# Altium footprint library mw.PcbLib: 252 footprints (part 9 of 16)
Each footprint in its own frame and in the unit in brackets; x right, y up, seen from the top. Pads: shape width x height; smd on the part's side, far side on the other; paste and mask are expansions set on the pad; w line width, h text height; cw(c..) or ccw(c..) is an arc to the next point about the centre after c.
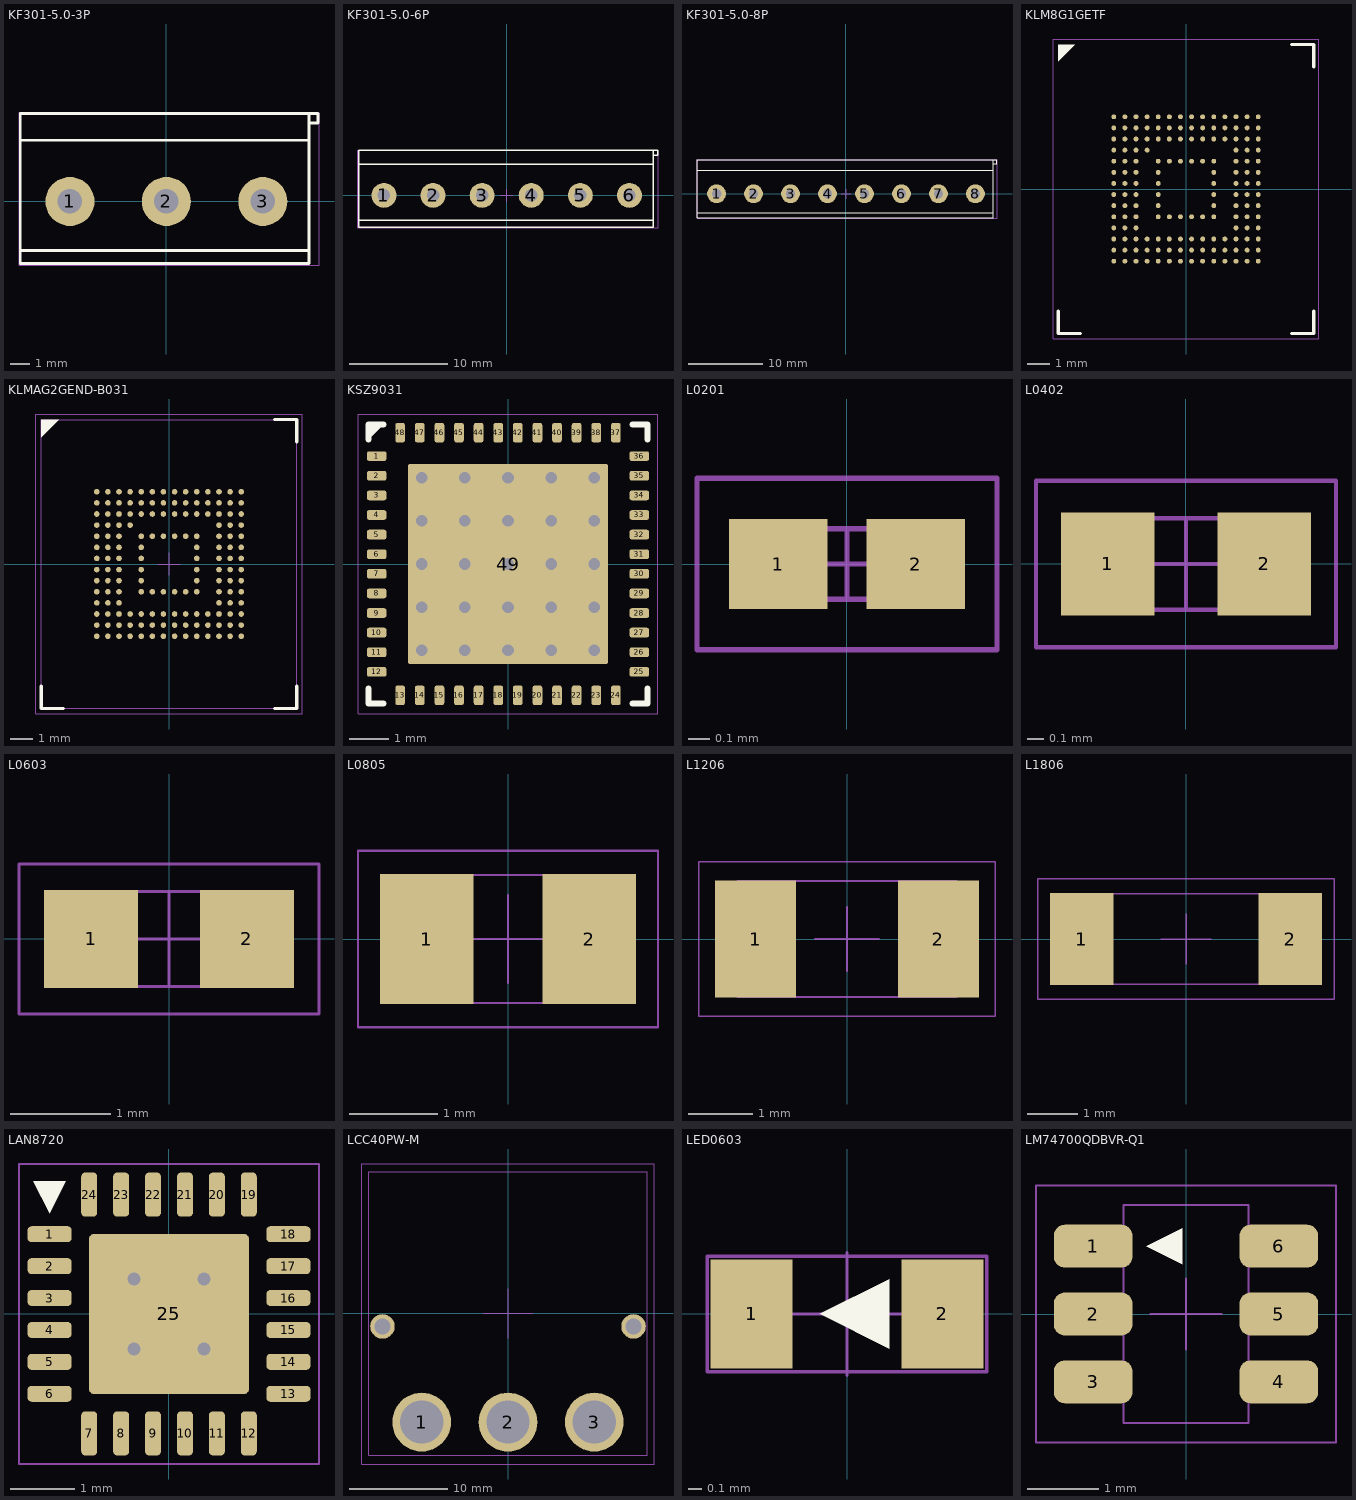
[diagram p8: the footprints below, top view; thin cyan lines are the x and y axes]

## KF301-5.0-3P [mm]
pads (3):
  round 2.54 hole 1.27: 1(-5,0) 2(0,0) 3(5,0)
Top Overlay:
  lines w0.152: -7.58,-2.54 7.406,-2.54 ; -7.58,3.175 7.406,3.175 ; 7.406,4.064 7.867,4.064 7.867,4.572 7.406,4.572 ; 7.406,4.572 -7.58,4.572 -7.58,-3.225 7.406,-3.225 7.406,4.572
Top Courtyard:
  lines w0.025: -0.635,0 0.635,0 ; 0,-0.635 0,0.635 ; -7.644,-3.315 -7.644,4.61 7.914,4.61 7.914,-3.315 -7.644,-3.315
3D body "KF301-5.0-3.STEP": height 10, standoff -2, extent -7.583,-3.128 7.917,4.572

## KF301-5.0-6P [mm]
pads (6):
  round 2.54 hole 1.27: 1(-12.5,0) 2(-7.5,0) 3(-2.5,0) 4(2.5,0) 5(7.5,0) 6(12.5,0)
Top Overlay:
  lines w0.152: -15.08,-2.54 14.906,-2.54 ; -15.08,3.175 14.906,3.189 ; 14.906,4.064 15.367,4.064 15.367,4.572 ; 15.367,4.572 14.906,4.572 14.906,-3.225 -15.08,-3.225 -15.08,4.572 15.367,4.572
Top Courtyard:
  lines w0.025: -0.635,0 0.635,0 ; 0,-0.635 0,0.635 ; -15.144,-3.315 -15.144,4.61 15.414,4.61 15.414,-3.315 -15.144,-3.315
3D body "KF301-5.0-6.STEP": height 10, standoff -2, extent -15.08,-3.225 15.42,4.475

## KF301-5.0-8P [mm]
pads (8):
  round 2.54 hole 1.27: 1(-17.5,0) 2(-12.5,0) 3(-7.5,0) 4(-2.5,0) 5(2.5,0) 6(7.5,0) 7(12.5,0) 8(17.5,0)
Top Overlay:
  lines w0.152: -20.08,-2.54 19.906,-2.54 ; -20.08,3.175 19.906,3.193 ; 19.906,4.064 20.367,4.064 20.367,4.572 19.906,4.572 ; 19.906,4.572 19.906,-3.225 -20.08,-3.225 -20.08,4.572 19.906,4.572
Top Courtyard:
  lines w0.025: -0.617,-0.002 0.653,-0.002 ; 0.018,-0.637 0.018,0.633 ; -20.144,-3.315 20.414,-3.315 20.414,4.61 -20.144,4.61 -20.144,-3.315
3D body "KF301-5.0-8.STEP": height 10, standoff -2, extent -20.08,-3.225 20.42,4.475

## KLM8G1GETF [mm]
height 0.8
pads (153):
  round 0.22 smd: A1(-3.25,3.25) A2(-2.75,3.25) A3(-2.25,3.25) A4(-1.75,3.25) A5(-1.25,3.25) A6(-0.75,3.25) A7(-0.25,3.25) A8(0.25,3.25) A9(0.75,3.25) A10(1.25,3.25) A11(1.75,3.25) A12(2.25,3.25) A13(2.75,3.25) A14(3.25,3.25) B1(-3.25,2.75) B2(-2.75,2.75) B3(-2.25,2.75) B4(-1.75,2.75) B5(-1.25,2.75) B6(-0.75,2.75) B7(-0.25,2.75) B8(0.25,2.75) B9(0.75,2.75) B10(1.25,2.75) B11(1.75,2.75) B12(2.25,2.75) B13(2.75,2.75) B14(3.25,2.75) C1(-3.25,2.25) C2(-2.75,2.25) C3(-2.25,2.25) C4(-1.75,2.25) C5(-1.25,2.25) C6(-0.75,2.25) C7(-0.25,2.25) C8(0.25,2.25) C9(0.75,2.25) C10(1.25,2.25) C11(1.75,2.25) C12(2.25,2.25) C13(2.75,2.25) C14(3.25,2.25) D1(-3.25,1.75) D2(-2.75,1.75) D3(-2.25,1.75) D4(-1.75,1.75) D12(2.25,1.75) D13(2.75,1.75) D14(3.25,1.75) E1(-3.25,1.25) E2(-2.75,1.25) E3(-2.25,1.25) E5(-1.25,1.25) E6(-0.75,1.25) E7(-0.25,1.25) E8(0.25,1.25) E9(0.75,1.25) E10(1.25,1.25) E12(2.25,1.25) E13(2.75,1.25) E14(3.25,1.25) F1(-3.25,0.75) F2(-2.75,0.75) F3(-2.25,0.75) F5(-1.25,0.75) F10(1.25,0.75) F12(2.25,0.75) F13(2.75,0.75) F14(3.25,0.75) G1(-3.25,0.25) G2(-2.75,0.25) G3(-2.25,0.25) G5(-1.25,0.25) G10(1.25,0.25) G12(2.25,0.25) G13(2.75,0.25) G14(3.25,0.25) H1(-3.25,-0.25) H2(-2.75,-0.25) H3(-2.25,-0.25) H5(-1.25,-0.25) H10(1.25,-0.25) H12(2.25,-0.25) H13(2.75,-0.25) H14(3.25,-0.25) J1(-3.25,-0.75) J2(-2.75,-0.75) J3(-2.25,-0.75) J5(-1.25,-0.75) J10(1.25,-0.75) J12(2.25,-0.75) J13(2.75,-0.75) J14(3.25,-0.75) K1(-3.25,-1.25) K2(-2.75,-1.25) K3(-2.25,-1.25) K5(-1.25,-1.25) K6(-0.75,-1.25) K7(-0.25,-1.25) K8(0.25,-1.25) K9(0.75,-1.25) K10(1.25,-1.25) K12(2.25,-1.25) K13(2.75,-1.25) K14(3.25,-1.25) L1(-3.25,-1.75) L2(-2.75,-1.75) L3(-2.25,-1.75) L12(2.25,-1.75) L13(2.75,-1.75) L14(3.25,-1.75) M1(-3.25,-2.25) M2(-2.75,-2.25) M3(-2.25,-2.25) M4(-1.75,-2.25) M5(-1.25,-2.25) M6(-0.75,-2.25) M7(-0.25,-2.25) M8(0.25,-2.25) M9(0.75,-2.25) M10(1.25,-2.25) M11(1.75,-2.25) M12(2.25,-2.25) M13(2.75,-2.25) M14(3.25,-2.25) N1(-3.25,-2.75) N2(-2.75,-2.75) N3(-2.25,-2.75) N4(-1.75,-2.75) N5(-1.25,-2.75) N6(-0.75,-2.75) N7(-0.25,-2.75) N8(0.25,-2.75) N9(0.75,-2.75) N10(1.25,-2.75) N11(1.75,-2.75) N12(2.25,-2.75) N13(2.75,-2.75) N14(3.25,-2.75) P1(-3.25,-3.25) P2(-2.75,-3.25) P3(-2.25,-3.25) P4(-1.75,-3.25) P5(-1.25,-3.25) P6(-0.75,-3.25) P7(-0.25,-3.25) P8(0.25,-3.25) P9(0.75,-3.25) P10(1.25,-3.25) P11(1.75,-3.25) P12(2.25,-3.25) P13(2.75,-3.25) P14(3.25,-3.25)
Top Overlay:
  region: -5.006,6.5 -5.75,5.756 -5.75,6.5
  lines w0.15: -5.75,-5.5 -5.75,-6.5 -4.75,-6.5 ; 4.75,-6.5 5.75,-6.5 5.75,-5.5 ; 4.75,6.5 5.75,6.5 5.75,5.5
Top Courtyard:
  lines w0.025: -5.975,-6.75 -5.975,6.75 5.975,6.75 5.975,-6.75 -5.975,-6.75

## KLMAG2GEND-B031 [mm] "BGA, 153-Leads, Body 11.50x13.00mmx1.00mm, Pitch 0.50mm"
height 1
pads (153):
  round 0.25 smd: A1(-3.25,3.25) A2(-2.75,3.25) A3(-2.25,3.25) A4(-1.75,3.25) A5(-1.25,3.25) A6(-0.75,3.25) A7(-0.25,3.25) A8(0.25,3.25) A9(0.75,3.25) A10(1.25,3.25) A11(1.75,3.25) A12(2.25,3.25) A13(2.75,3.25) A14(3.25,3.25) B1(-3.25,2.75) B2(-2.75,2.75) B3(-2.25,2.75) B4(-1.75,2.75) B5(-1.25,2.75) B6(-0.75,2.75) B7(-0.25,2.75) B8(0.25,2.75) B9(0.75,2.75) B10(1.25,2.75) B11(1.75,2.75) B12(2.25,2.75) B13(2.75,2.75) B14(3.25,2.75) C1(-3.25,2.25) C2(-2.75,2.25) C3(-2.25,2.25) C4(-1.75,2.25) C5(-1.25,2.25) C6(-0.75,2.25) C7(-0.25,2.25) C8(0.25,2.25) C9(0.75,2.25) C10(1.25,2.25) C11(1.75,2.25) C12(2.25,2.25) C13(2.75,2.25) C14(3.25,2.25) D1(-3.25,1.75) D2(-2.75,1.75) D3(-2.25,1.75) D4(-1.75,1.75) D12(2.25,1.75) D13(2.75,1.75) D14(3.25,1.75) E1(-3.25,1.25) E2(-2.75,1.25) E3(-2.25,1.25) E5(-1.25,1.25) E6(-0.75,1.25) E7(-0.25,1.25) E8(0.25,1.25) E9(0.75,1.25) E10(1.25,1.25) E12(2.25,1.25) E13(2.75,1.25) E14(3.25,1.25) F1(-3.25,0.75) F2(-2.75,0.75) F3(-2.25,0.75) F5(-1.25,0.75) F10(1.25,0.75) F12(2.25,0.75) F13(2.75,0.75) F14(3.25,0.75) G1(-3.25,0.25) G2(-2.75,0.25) G3(-2.25,0.25) G5(-1.25,0.25) G10(1.25,0.25) G12(2.25,0.25) G13(2.75,0.25) G14(3.25,0.25) H1(-3.25,-0.25) H2(-2.75,-0.25) H3(-2.25,-0.25) H5(-1.25,-0.25) H10(1.25,-0.25) H12(2.25,-0.25) H13(2.75,-0.25) H14(3.25,-0.25) J1(-3.25,-0.75) J2(-2.75,-0.75) J3(-2.25,-0.75) J5(-1.25,-0.75) J10(1.25,-0.75) J12(2.25,-0.75) J13(2.75,-0.75) J14(3.25,-0.75) K1(-3.25,-1.25) K2(-2.75,-1.25) K3(-2.25,-1.25) K5(-1.25,-1.25) K6(-0.75,-1.25) K7(-0.25,-1.25) K8(0.25,-1.25) K9(0.75,-1.25) K10(1.25,-1.25) K12(2.25,-1.25) K13(2.75,-1.25) K14(3.25,-1.25) L1(-3.25,-1.75) L2(-2.75,-1.75) L3(-2.25,-1.75) L12(2.25,-1.75) L13(2.75,-1.75) L14(3.25,-1.75) M1(-3.25,-2.25) M2(-2.75,-2.25) M3(-2.25,-2.25) M4(-1.75,-2.25) M5(-1.25,-2.25) M6(-0.75,-2.25) M7(-0.25,-2.25) M8(0.25,-2.25) M9(0.75,-2.25) M10(1.25,-2.25) M11(1.75,-2.25) M12(2.25,-2.25) M13(2.75,-2.25) M14(3.25,-2.25) N1(-3.25,-2.75) N2(-2.75,-2.75) N3(-2.25,-2.75) N4(-1.75,-2.75) N5(-1.25,-2.75) N6(-0.75,-2.75) N7(-0.25,-2.75) N8(0.25,-2.75) N9(0.75,-2.75) N10(1.25,-2.75) N11(1.75,-2.75) N12(2.25,-2.75) N13(2.75,-2.75) N14(3.25,-2.75) P1(-3.25,-3.25) P2(-2.75,-3.25) P3(-2.25,-3.25) P4(-1.75,-3.25) P5(-1.25,-3.25) P6(-0.75,-3.25) P7(-0.25,-3.25) P8(0.25,-3.25) P9(0.75,-3.25) P10(1.25,-3.25) P11(1.75,-3.25) P12(2.25,-3.25) P13(2.75,-3.25) P14(3.25,-3.25)
Top Overlay:
  region: -4.955,6.5 -5.75,5.705 -5.75,6.5
  lines w0.15: -5.75,-5.5 -5.75,-6.5 -4.75,-6.5 ; 4.75,-6.5 5.75,-6.5 5.75,-5.5 ; 4.75,6.5 5.75,6.5 5.75,5.5
Top 3D Body (Mech13):
  lines w0.025: -5.75,-6.5 5.75,-6.5 5.75,6.5 -5.75,6.5 -5.75,-6.5
Top Courtyard:
  lines w0.025: -0.5,0 0.5,0 ; 0,-0.5 0,0.5 ; -6,-6.75 6,-6.75 6,6.75 -6,6.75 -6,-6.75
3D body "KLMAG2GEND-B031.step": height 1, standoff 0, extent -5.75,-6.5 5.75,6.5

## KSZ9031 [mm] "QFN, 48-Leads, Body 7.00x7.00mm, Pitch 0.50mm, Thermal Pad 5.10x5.10mm, IPC High Density"
height 0.85
pads (49):
  rrect50% 0.5x0.25 smd: 1(-3.35,2.75) 2(-3.35,2.25) 3(-3.35,1.75) 4(-3.35,1.25) 5(-3.35,0.75) 6(-3.35,0.25) 7(-3.35,-0.25) 8(-3.35,-0.75) 9(-3.35,-1.25) 10(-3.35,-1.75) 11(-3.35,-2.25) 12(-3.35,-2.75) 25(3.35,-2.75) 26(3.35,-2.25) 27(3.35,-1.75) 28(3.35,-1.25) 29(3.35,-0.75) 30(3.35,-0.25) 31(3.35,0.25) 32(3.35,0.75) 33(3.35,1.25) 34(3.35,1.75) 35(3.35,2.25) 36(3.35,2.75)
  rrect50% 0.25x0.5 smd: 13(-2.75,-3.35) 14(-2.25,-3.35) 15(-1.75,-3.35) 16(-1.25,-3.35) 17(-0.75,-3.35) 18(-0.25,-3.35) 19(0.25,-3.35) 20(0.75,-3.35) 21(1.25,-3.35) 22(1.75,-3.35) 23(2.25,-3.35) 24(2.75,-3.35) 37(2.75,3.35) 38(2.25,3.35) 39(1.75,3.35) 40(1.25,3.35) 41(0.75,3.35) 42(0.25,3.35) 43(-0.25,3.35) 44(-0.75,3.35) 45(-1.25,3.35) 46(-1.75,3.35) 47(-2.25,3.35) 48(-2.75,3.35)
  rrect2% 5.1x5.1 smd: 49(0,0)
via 2.2,-2.2 diameter 0.4 hole 0.3
via 1.1,-2.2 diameter 0.4 hole 0.3
via 0,-2.2 diameter 0.4 hole 0.3
via -1.1,-2.2 diameter 0.4 hole 0.3
via -2.2,-2.2 diameter 0.4 hole 0.3
via 2.2,-1.1 diameter 0.4 hole 0.3
via 1.1,-1.1 diameter 0.4 hole 0.3
via 0,-1.1 diameter 0.4 hole 0.3
via -1.1,-1.1 diameter 0.4 hole 0.3
via -2.2,-1.1 diameter 0.4 hole 0.3
via 2.2,0 diameter 0.4 hole 0.3
via 1.1,0 diameter 0.4 hole 0.3
via 0,0 diameter 0.4 hole 0.3
via -1.1,0 diameter 0.4 hole 0.3
via -2.2,0 diameter 0.4 hole 0.3
via 2.2,1.1 diameter 0.4 hole 0.3
via 1.1,1.1 diameter 0.4 hole 0.3
via 0,1.1 diameter 0.4 hole 0.3
via -1.1,1.1 diameter 0.4 hole 0.3
via -2.2,1.1 diameter 0.4 hole 0.3
via 2.2,2.2 diameter 0.4 hole 0.3
via 1.1,2.2 diameter 0.4 hole 0.3
via 0,2.2 diameter 0.4 hole 0.3
via -1.1,2.2 diameter 0.4 hole 0.3
via -2.2,2.2 diameter 0.4 hole 0.3
Top Overlay:
  region: -3.556,3.556 -3.175,3.556 -3.556,3.175
  lines w0.15: -3.556,-3.175 -3.556,-3.556 -3.175,-3.556 ; -3.556,3.175 -3.556,3.556 -3.175,3.556 ; 3.175,-3.556 3.556,-3.556 3.556,-3.175 ; 3.175,3.556 3.556,3.556 3.556,3.175
Top Courtyard:
  lines w0.025: -0.5,0 0.5,0 ; 0,-0.5 0,0.5 ; -3.825,-3.825 3.825,-3.825 3.825,3.825 -3.825,3.825 -3.825,-3.825
3D body "ksz9031.STEP": height 0.88, standoff 0, extent -3.567,-3.57 3.563,3.56

## L0201 [mm] "Chip Inductor, 2-Leads, Body 0.60x0.30mm, IPC Medium Density"
height 0.33
pads (2):
  rect 0.46x0.42 smd: 1(-0.32,0) 2(0.32,0)
Top 3D Body (Mech13):
  lines w0.025: -0.315,-0.165 0.315,-0.165 0.315,0.165 -0.315,0.165 -0.315,-0.165
Top Courtyard:
  lines w0.025: -0.165,0 0.165,0 ; 0,-0.165 0,0.165 ; -0.7,-0.4 0.7,-0.4 0.7,0.4 -0.7,0.4 -0.7,-0.4
3D body "INDC0603X03N.step": height 0.33, standoff 0, extent -0.315,-0.165 0.315,0.165

## L0402 [mm] "Chip Inductor, 2-Leads, Body 1.00x0.50mm, IPC Medium Density"
height 0.55
pads (2):
  rect 0.56x0.62 smd: 1(-0.47,0) 2(0.47,0)
Top 3D Body (Mech13):
  lines w0.025: -0.525,-0.275 0.525,-0.275 0.525,0.275 -0.525,0.275 -0.525,-0.275
Top Courtyard:
  lines w0.025: -0.275,0 0.275,0 ; 0,-0.275 0,0.275 ; -0.9,-0.5 0.9,-0.5 0.9,0.5 -0.9,0.5 -0.9,-0.5
3D body "INDC1005X06N.step": height 0.55, standoff 0, extent -0.525,-0.275 0.525,0.275

## L0603 [mm] "Chip Inductor, 2-Leads, Body 1.60x0.80mm, IPC Medium Density"
height 0.95
pads (2):
  rect 0.94x0.98 smd: 1(-0.78,0) 2(0.78,0)
Top 3D Body (Mech13):
  lines w0.025: -0.875,-0.475 -0.875,0.475 0.875,0.475 0.875,-0.475 -0.875,-0.475
Top Courtyard:
  lines w0.025: -0.475,0 0.475,0 ; 0,-0.475 0,0.475 ; -1.5,-0.75 -1.5,0.75 1.5,0.75 1.5,-0.75 -1.5,-0.75
3D body "INDC1608X10N.step": height 0.95, standoff 0, extent -0.875,-0.475 0.875,0.475

## L0805 [mm] "Chip Inductor, 2-Leads, Body 2.00x1.25mm, IPC Medium Density"
height 1.05
pads (2):
  rect 1.06x1.47 smd: 1(-0.92,0) 2(0.92,0)
Top 3D Body (Mech13):
  lines w0.025: -1.1,-0.725 1.1,-0.725 1.1,0.725 -1.1,0.725 -1.1,-0.725
Top Courtyard:
  lines w0.025: -0.5,0 0.5,0 ; 0,-0.5 0,0.5 ; -1.7,-1 1.7,-1 1.7,1 -1.7,1 -1.7,-1
3D body "INDC2012X10N.step": height 1.05, standoff 0, extent -1.1,-0.725 1.1,0.725

## L1206 [mm] "Chip Inductor, 2-Leads, Body 3.20x1.60mm, IPC Medium Density"
height 1.4
pads (2):
  rect 1.26x1.82 smd: 1(-1.42,0) 2(1.42,0)
Top 3D Body (Mech13):
  lines w0.025: -1.7,-0.9 1.7,-0.9 1.7,0.9 -1.7,0.9 -1.7,-0.9
Top Courtyard:
  lines w0.025: -0.5,0 0.5,0 ; 0,-0.5 0,0.5 ; -2.3,-1.2 2.3,-1.2 2.3,1.2 -2.3,1.2 -2.3,-1.2
3D body "INDC3216X14N.step": height 1.4, standoff 0, extent -1.7,-0.9 1.7,0.9

## L1806 [mm] "Chip Inductor, 2-Leads, Body 4.50x1.60mm, IPC Medium Density"
height 1.8
pads (2):
  rect 1.26x1.82 smd: 1(-2.07,0) 2(2.07,0)
Top 3D Body (Mech13):
  lines w0.025: -2.35,-0.9 2.35,-0.9 2.35,0.9 -2.35,0.9 -2.35,-0.9
Top Courtyard:
  lines w0.025: -0.5,0 0.5,0 ; 0,-0.5 0,0.5 ; -2.95,-1.2 2.95,-1.2 2.95,1.2 -2.95,1.2 -2.95,-1.2
3D body "INDC4516X18N.step": height 1.8, standoff 0, extent -2.35,-0.9 2.35,0.9

## LAN8720 [mm] "QFN, 24-Leads, Body 4.00x4.00mm, Pitch 0.50mm, Thermal Pad 2.50x2.50mm, IPC High Density"
height 0.85
pads (25):
  rrect50% 0.69x0.25 smd: 1(-1.87,1.25) 2(-1.87,0.75) 3(-1.87,0.25) 4(-1.87,-0.25) 5(-1.87,-0.75) 6(-1.87,-1.25) 13(1.87,-1.25) 14(1.87,-0.75) 15(1.87,-0.25) 16(1.87,0.25) 17(1.87,0.75) 18(1.87,1.25)
  rrect50% 0.25x0.69 smd: 7(-1.25,-1.87) 8(-0.75,-1.87) 9(-0.25,-1.87) 10(0.25,-1.87) 11(0.75,-1.87) 12(1.25,-1.87) 19(1.25,1.87) 20(0.75,1.87) 21(0.25,1.87) 22(-0.25,1.87) 23(-0.75,1.87) 24(-1.25,1.87)
  rrect5% 2.5x2.5 smd: 25(0,0)
via 0.55,-0.55 diameter 0.45 hole 0.2
via -0.55,-0.55 diameter 0.45 hole 0.2
via 0.55,0.55 diameter 0.45 hole 0.2
via -0.55,0.55 diameter 0.45 hole 0.2
Top Overlay:
  region: -1.616,2.083 -2.124,2.083 -1.87,1.575
Top Courtyard:
  lines w0.025: -0.5,0 0.5,0 ; 0,-0.5 0,0.5 ; -2.35,-2.35 2.35,-2.35 2.35,2.35 -2.35,2.35 -2.35,-2.35

## LCC40PW-M [mm]
pads (5):
  round 6 hole 4.4: 1(-8.8,-11.079) 2(0,-11.079) 3(8.8,-11.079)
  round 2.5 hole 1.6: ""(-12.8,-1.329) ""(12.8,-1.329)
Top 3D Body (Mech13):
  lines w0.025: -14.225,-14.45 -14.225,14.45 14.225,14.45 14.225,-14.45 -14.225,-14.45
Top Courtyard:
  lines w0.025: -2.54,0 2.54,0 ; 0,-2.54 0,2.54 ; -14.939,-15.353 14.939,-15.353 14.939,15.242 -14.939,15.242 -14.939,-15.353
3D body "LCC40PW-M.step": height 13.55, standoff -3.6, extent -14.225,-14.45 14.225,14.45

## LED0603 [mm] "Chip LED, 2-Leads, Body 1.60x0.80mm, IPC High Density"
height 0.45
pads (2):
  rect 0.6x0.8 smd: 1(-0.7,0) 2(0.7,0)
Top Overlay:
  region: 0.308,-0.254 0.308,0.254 -0.2,0
Top Courtyard:
  lines w0.025: -0.45,0 0.45,0 ; 0,-0.45 0,0.45 ; -1.024,-0.424 -1.024,0.424 1.024,0.424 1.024,-0.424 -1.024,-0.424
3D body "led0603.STEP": height 0.65, standoff 0.01, extent -0.85,-0.394 0.85,0.406

## LM74700QDBVR-Q1 [mm] "SOT23, 6-Leads, Body 2.90x2.80mm, Pitch 0.95mm, IPC Medium Density"
height 1.45
pads (6):
  rrect50% 1.1x0.6 smd: 1(-1.3,0.95) 2(-1.3,0) 3(-1.3,-0.95) 4(1.3,-0.95) 5(1.3,0) 6(1.3,0.95)
Top Overlay:
  region: -0.051,0.696 -0.051,1.204 -0.559,0.95
Top 3D Body (Mech13):
  lines w0.025: -0.875,-1.525 -0.875,1.525 0.875,1.525 0.875,-1.525 -0.875,-1.525
Top Courtyard:
  lines w0.025: -0.5,0 0.5,0 ; 0,-0.5 0,0.5 ; -2.1,-1.8 -2.1,1.8 2.1,1.8 2.1,-1.8 -2.1,-1.8
3D body "LM74700QDBVR-Q1.step": height 1.45, standoff 0, extent -1.5,-1.525 1.5,1.525